# EAGLE library part INA2134 (library ADCs)
Audio Differential Line Receivers 0dB, G=1
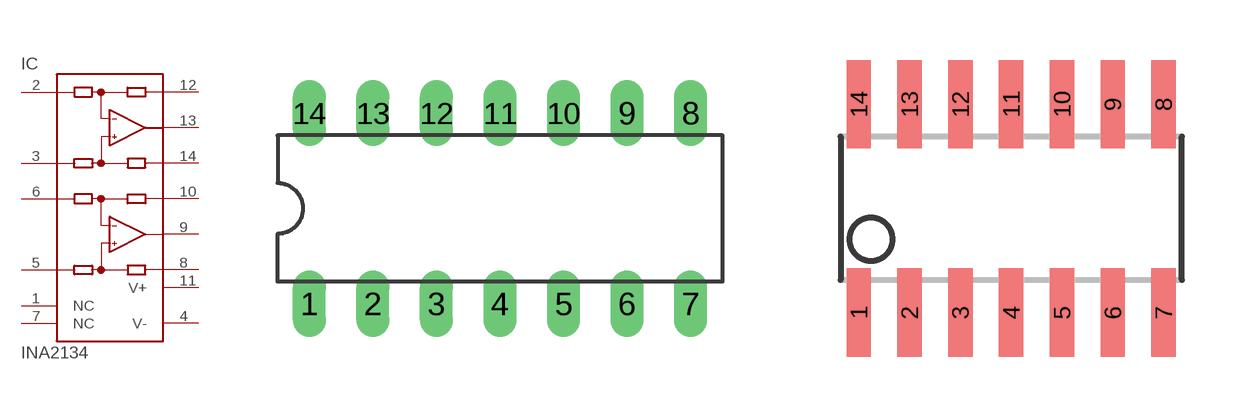
[diagram p49: symbol with the pads of DIL14; footprints DIL14, SO14]

Designator prefix IC

## INA2134P (MF: TEXAS INSTRUMENT CONNECTORS; MPN: INA2134PA; OC_FARNELL: unknown; OC_NEWARK: 14M8174)  [DIL14]
1  NC  nc
2  -INA  in
3  +INA  in
4  V-  pwr
5  +INB  in
6  -INB  in
7  NC  nc
8  REFB  pas
9  OUTB  out
10  SENSEB  pas
11  V+  pwr
12  SENSEA  pas
13  OUTA  out
14  REFA  pas

## INA2134U (MF: TEXAS INSTRUMENTS; MPN: INA2134UA; OC_FARNELL: 1212422; OC_NEWARK: 35C1748)  [SO14]
Pads as for DIL14

## Footprint DIL14 (pad centres in mm)
Dual In Line Package
drill 0.813 long: 1 -7.62,-3.81; 2 -5.08,-3.81; 3 -2.54,-3.81; 4 0,-3.81; 5 2.54,-3.81; 6 5.08,-3.81; 7 7.62,-3.81; 8 7.62,3.81; 9 5.08,3.81; 10 2.54,3.81; 11 0,3.81; 12 -2.54,3.81; 13 -5.08,3.81; 14 -7.62,3.81

## Footprint SO14 (pad centres in mm)
Small Outline Package
smd 0.61 x 2.21: 1 -3.81,-2.603; 2 -2.54,-2.603; 3 -1.27,-2.603; 4 0,-2.603; 5 1.27,-2.603; 6 2.54,-2.603; 7 3.81,-2.603; 8 3.81,2.603; 9 2.54,2.603; 10 1.27,2.603; 11 0,2.603; 12 -1.27,2.603; 13 -2.54,2.603; 14 -3.81,2.603